# Altium footprint library pizero.PCBLIB: 2 footprints
Each footprint in its own frame and in the unit in brackets; x right, y up, seen from the top. Pads: shape width x height; smd on the part's side, far side on the other; paste and mask are expansions set on the pad; w line width, h text height; cw(c..) or ccw(c..) is an arc to the next point about the centre after c.
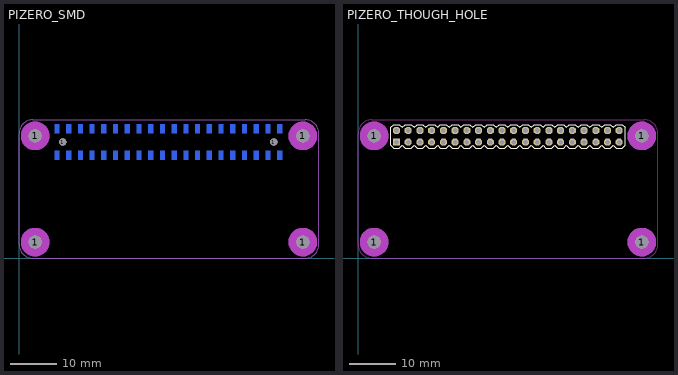
[diagram p0: the footprints below, top view; thin cyan lines are the x and y axes]

## PIZERO_SMD [mm]
pads (46):
  round 2.8 hole 2.8: 1(3.5,3.5) 1(3.5,26.5) 1(61.5,3.5) 1(61.5,26.5)
  round 1.6 hole 1.6: 1(9.493,25.181) 1(55.213,25.181)
  rect 1.02x1.87 smd far side: P1(8.223,22.316) P2(8.223,28.046) P3(10.763,22.316) P4(10.763,28.046) P5(13.303,22.316) P6(13.303,28.046) P7(15.843,22.316) P8(15.843,28.046) P9(18.383,22.316) P10(18.383,28.046) P11(20.923,22.316) P12(20.923,28.046) P13(23.463,22.316) P14(23.463,28.046) P15(26.003,22.316) P16(26.003,28.046) P17(28.543,22.316) P18(28.543,28.046) P19(31.083,22.316) P20(31.083,28.046) P21(33.623,22.316) P22(33.623,28.046) P23(36.163,22.316) P24(36.163,28.046) P25(38.703,22.316) P26(38.703,28.046) P27(41.243,22.316) P28(41.243,28.046) P29(43.783,22.316) P30(43.783,28.046) P31(46.323,22.316) P32(46.323,28.046) P33(48.863,22.316) P34(48.863,28.046) P35(51.403,22.316) P36(51.403,28.046) P37(53.943,22.316) P38(53.943,28.046) P39(56.483,22.316) P40(56.483,28.046)
Bottom Overlay:
  lines w0.152: 7.366,20.828 7.366,29.464 57.404,29.464 57.404,20.828 7.366,20.828
  text "1" at 7.832,19.181 h1.97
Mechanical 1:
  lines w0: 0,3 ccw(c3,3) 3,0 62,0 ccw(c62,3) 65,3 65,27 ccw(c62,27) 62,30 3,30 ccw(c3,27) 0,27 0,3
Mechanical 8 keep-out:
  circle w3.1: c3.5,3.5 r1.55
  circle w3.1: c61.5,3.5 r1.55
  circle w3.1: c61.5,26.5 r1.55
  circle w3.1: c3.5,26.5 r1.55
Mechanical 9 keep-out:
  circle w3.1: c61.5,26.5 r1.55
  circle w3.1: c61.5,3.5 r1.55
  circle w3.1: c3.5,26.5 r1.55
  circle w3.1: c3.5,3.5 r1.55

## PIZERO_THOUGH_HOLE [mil]
pads (44):
  round 110.24 hole 110.24: 1(137.8,137.8) 1(137.8,1043.31) 1(2421.26,137.8) 1(2421.26,1043.31)
  rect 60x60 hole 40: 1(328.35,990.16)
  oct 60x60 hole 40: 2(328.35,1090.16) 3(428.35,990.16) 4(428.35,1090.16) 5(528.35,990.16) 6(528.35,1090.16) 7(628.35,990.16) 8(628.35,1090.16) 9(728.35,990.16) 10(728.35,1090.16) 11(828.35,990.16) 12(828.35,1090.16) 13(928.35,990.16) 14(928.35,1090.16) 15(1028.35,990.16) 16(1028.35,1090.16) 17(1128.35,990.16) 18(1128.35,1090.16) 19(1228.35,990.16) 20(1228.35,1090.16) 21(1328.35,990.16) 22(1328.35,1090.16) 23(1428.35,990.16) 24(1428.35,1090.16) 25(1528.35,990.16) 26(1528.35,1090.16) 27(1628.35,990.16) 28(1628.35,1090.16) 29(1728.35,990.16) 30(1728.35,1090.16) 31(1828.35,990.16) 32(1828.35,1090.16) 33(1928.35,990.16) 34(1928.35,1090.16) 35(2028.35,990.16) 36(2028.35,1090.16) 37(2128.35,990.16) 38(2128.35,1090.16) 39(2228.35,990.16) 40(2228.35,1090.16)
Top Overlay:
  lines w6: 278.35,965.16 303.35,940.16 353.35,940.16 378.35,965.16 403.35,940.16 453.35,940.16 478.35,965.16 503.35,940.16 553.35,940.16 578.35,965.16 603.35,940.16 653.35,940.16 678.35,965.16 703.35,940.16 753.35,940.16 778.35,965.16 803.35,940.16 853.35,940.16 878.35,965.16 903.35,940.16 953.35,940.16 978.35,965.16 1003.35,940.16 1053.35,940.16 1078.35,965.16 1103.35,940.16 1153.35,940.16 1178.35,965.16 1203.35,940.16 1253.35,940.16 1278.35,965.16 1303.35,940.16 1353.35,940.16 1378.35,965.16 1403.35,940.16 1453.35,940.16 1478.35,965.16 1503.35,940.16 1553.35,940.16 1578.35,965.16 1603.35,940.16 1653.35,940.16 1678.35,965.16 1703.35,940.16 1753.35,940.16 1778.35,965.16 1803.35,940.16 1853.35,940.16 1878.35,965.16 1903.35,940.16 1953.35,940.16 1978.35,965.16 2003.35,940.16 2053.35,940.16 2078.35,965.16 2103.35,940.16 2153.35,940.16 2178.35,965.16 2203.35,940.16 2253.35,940.16 2278.35,965.16 2278.35,1115.16 2253.35,1140.16 2203.35,1140.16 2178.35,1115.16 2153.35,1140.16 2103.35,1140.16 2078.35,1115.16 2053.35,1140.16 2003.35,1140.16 1978.35,1115.16 1953.35,1140.16 1903.35,1140.16 1878.35,1115.16 1853.35,1140.16 1803.35,1140.16 1778.35,1115.16 1753.35,1140.16 1703.35,1140.16 1678.35,1115.16 1653.35,1140.16 1603.35,1140.16 1578.35,1115.16 1553.35,1140.16 1503.35,1140.16 1478.35,1115.16 1453.35,1140.16 1403.35,1140.16 1378.35,1115.16 1353.35,1140.16 1303.35,1140.16 1278.35,1115.16 1253.35,1140.16 1203.35,1140.16 1178.35,1115.16 1153.35,1140.16 1103.35,1140.16 1078.35,1115.16 1053.35,1140.16 1003.35,1140.16 978.35,1115.16 953.35,1140.16 903.35,1140.16 878.35,1115.16 853.35,1140.16 803.35,1140.16 778.35,1115.16 753.35,1140.16 703.35,1140.16 678.35,1115.16 653.35,1140.16 603.35,1140.16 578.35,1115.16 553.35,1140.16 503.35,1140.16 478.35,1115.16 453.35,1140.16 403.35,1140.16 378.35,1115.16 353.35,1140.16 303.35,1140.16 278.35,1115.16 278.35,965.16
Keep-Out Layer:
  lines w0: 0,118.11 ccw(c118.11,118.11) 118.11,0 2440.94,0 ccw(c2440.95,118.11) 2559.06,118.11 2559.06,1062.99 ccw(c2440.95,1062.98) 2440.94,1181.1 118.11,1181.1 ccw(c118.11,1062.99) 0,1062.99 0,118.11
Mechanical 8 keep-out:
  circle w122.05: c137.8,137.8 r61.02
  circle w122.05: c2421.26,137.8 r61.02
  circle w122.05: c2421.26,1043.31 r61.02
  circle w122.05: c137.8,1043.31 r61.02
Mechanical 9 keep-out:
  circle w122.05: c2421.26,1043.31 r61.02
  circle w122.05: c2421.26,137.8 r61.02
  circle w122.05: c137.8,1043.31 r61.02
  circle w122.05: c137.8,137.8 r61.02
Mechanical 16:
  rectangle: 2218.35,1080.16 2238.35,1100.16
  rectangle: 2118.35,1080.16 2138.35,1100.16
  rectangle: 2018.35,1080.16 2038.35,1100.16
  rectangle: 1918.35,1080.16 1938.35,1100.16
  rectangle: 1818.35,1080.16 1838.35,1100.16
  rectangle: 1718.35,1080.16 1738.35,1100.16
  rectangle: 2218.35,980.16 2238.35,1000.16
  rectangle: 2018.35,980.16 2038.35,1000.16
  rectangle: 2118.35,980.16 2138.35,1000.16
  rectangle: 1918.35,980.16 1938.35,1000.16
  rectangle: 1718.35,980.16 1738.35,1000.16
  rectangle: 1818.35,980.16 1838.35,1000.16
  rectangle: 1618.35,980.16 1638.35,1000.16
  rectangle: 1618.35,1080.16 1638.35,1100.16
  rectangle: 1518.35,1080.16 1538.35,1100.16
  rectangle: 1418.35,1080.16 1438.35,1100.16
  rectangle: 1318.35,1080.16 1338.35,1100.16
  rectangle: 1218.35,1080.16 1238.35,1100.16
  rectangle: 1118.35,1080.16 1138.35,1100.16
  rectangle: 1018.35,1080.16 1038.35,1100.16
  rectangle: 1518.35,980.16 1538.35,1000.16
  rectangle: 1318.35,980.16 1338.35,1000.16
  rectangle: 1418.35,980.16 1438.35,1000.16
  rectangle: 1218.35,980.16 1238.35,1000.16
  rectangle: 1018.35,980.16 1038.35,1000.16
  rectangle: 1118.35,980.16 1138.35,1000.16
  rectangle: 918.35,980.16 938.35,1000.16
  rectangle: 918.35,1080.16 938.35,1100.16
  rectangle: 818.35,1080.16 838.35,1100.16
  rectangle: 718.35,1080.16 738.35,1100.16
  rectangle: 618.35,1080.16 638.35,1100.16
  rectangle: 518.35,1080.16 538.35,1100.16
  rectangle: 418.35,1080.16 438.35,1100.16
  rectangle: 318.35,1080.16 338.35,1100.16
  rectangle: 818.35,980.16 838.35,1000.16
  rectangle: 618.35,980.16 638.35,1000.16
  rectangle: 718.35,980.16 738.35,1000.16
  rectangle: 518.35,980.16 538.35,1000.16
  rectangle: 318.35,980.16 338.35,1000.16
  rectangle: 418.35,980.16 438.35,1000.16